# Altium footprint library Atmel Footprints.PcbLib: 116 footprints (part 8 of 8)
Each footprint in its own frame and in the unit in brackets; x right, y up, seen from the top. Pads: shape width x height; smd on the part's side, far side on the other; paste and mask are expansions set on the pad; w line width, h text height; cw(c..) or ccw(c..) is an arc to the next point about the centre after c.
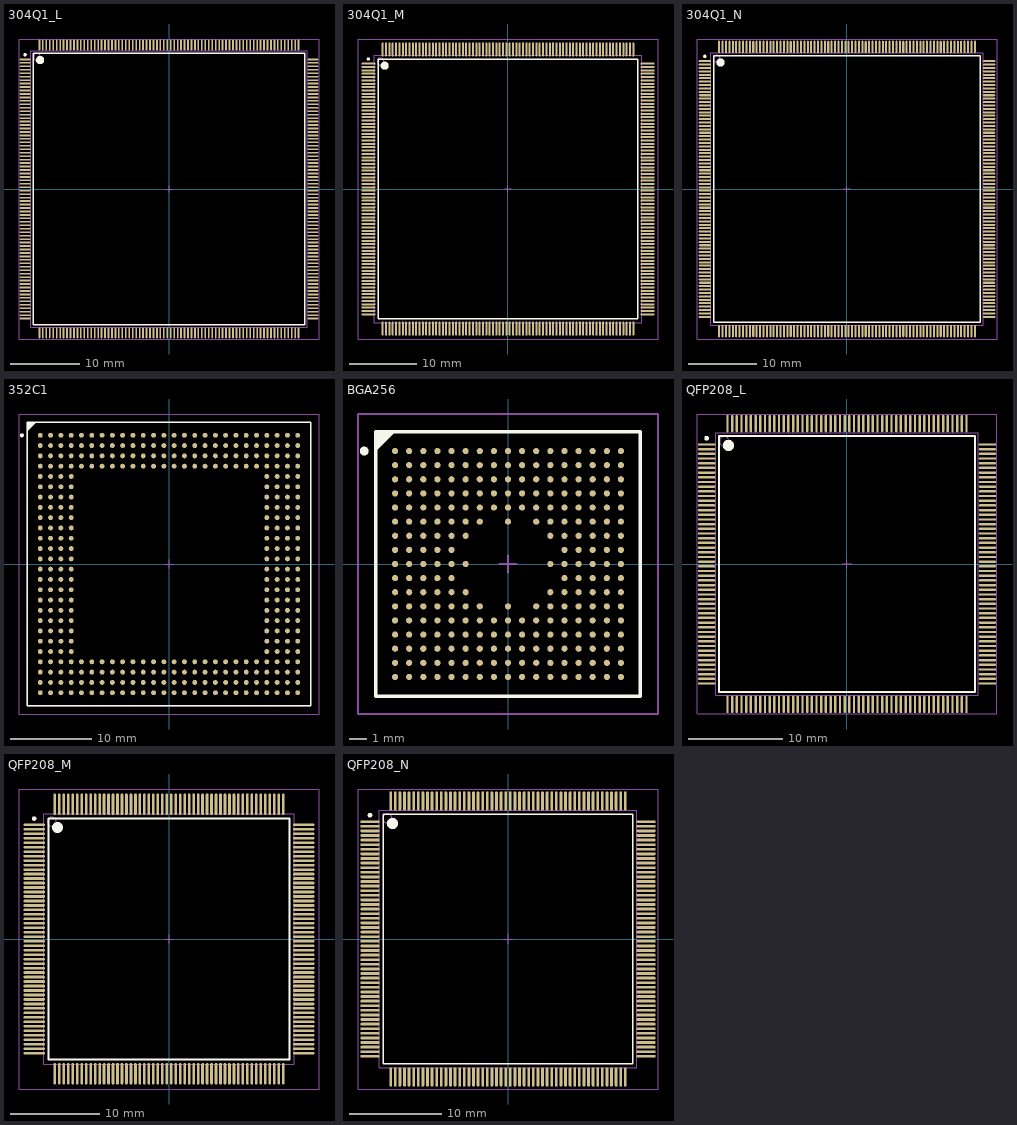
[diagram p7: the footprints below, top view; thin cyan lines are the x and y axes]

## 304Q1_L [mm] "304-Pin Shrink Quad Flat Pack 0.5 mm Pitch, IPC High Density"
height 4.05
pads (304):
  oval 1.55x0.25 smd: 1(-20.825,18.75) 2(-20.825,18.25) 3(-20.825,17.75) 4(-20.825,17.25) 5(-20.825,16.75) 6(-20.825,16.25) 7(-20.825,15.75) 8(-20.825,15.25) 9(-20.825,14.75) 10(-20.825,14.25) 11(-20.825,13.75) 12(-20.825,13.25) 13(-20.825,12.75) 14(-20.825,12.25) 15(-20.825,11.75) 16(-20.825,11.25) 17(-20.825,10.75) 18(-20.825,10.25) 19(-20.825,9.75) 20(-20.825,9.25) 21(-20.825,8.75) 22(-20.825,8.25) 23(-20.825,7.75) 24(-20.825,7.25) 25(-20.825,6.75) 26(-20.825,6.25) 27(-20.825,5.75) 28(-20.825,5.25) 29(-20.825,4.75) 30(-20.825,4.25) 31(-20.825,3.75) 32(-20.825,3.25) 33(-20.825,2.75) 34(-20.825,2.25) 35(-20.825,1.75) 36(-20.825,1.25) 37(-20.825,0.75) 38(-20.825,0.25) 39(-20.825,-0.25) 40(-20.825,-0.75) 41(-20.825,-1.25) 42(-20.825,-1.75) 43(-20.825,-2.25) 44(-20.825,-2.75) 45(-20.825,-3.25) 46(-20.825,-3.75) 47(-20.825,-4.25) 48(-20.825,-4.75) 49(-20.825,-5.25) 50(-20.825,-5.75) 51(-20.825,-6.25) 52(-20.825,-6.75) 53(-20.825,-7.25) 54(-20.825,-7.75) 55(-20.825,-8.25) 56(-20.825,-8.75) 57(-20.825,-9.25) 58(-20.825,-9.75) 59(-20.825,-10.25) 60(-20.825,-10.75) 61(-20.825,-11.25) 62(-20.825,-11.75) 63(-20.825,-12.25) 64(-20.825,-12.75) 65(-20.825,-13.25) 66(-20.825,-13.75) 67(-20.825,-14.25) 68(-20.825,-14.75) 69(-20.825,-15.25) 70(-20.825,-15.75) 71(-20.825,-16.25) 72(-20.825,-16.75) 73(-20.825,-17.25) 74(-20.825,-17.75) 75(-20.825,-18.25) 76(-20.825,-18.75) 153(20.825,-18.75) 154(20.825,-18.25) 155(20.825,-17.75) 156(20.825,-17.25) 157(20.825,-16.75) 158(20.825,-16.25) 159(20.825,-15.75) 160(20.825,-15.25) 161(20.825,-14.75) 162(20.825,-14.25) 163(20.825,-13.75) 164(20.825,-13.25) 165(20.825,-12.75) 166(20.825,-12.25) 167(20.825,-11.75) 168(20.825,-11.25) 169(20.825,-10.75) 170(20.825,-10.25) 171(20.825,-9.75) 172(20.825,-9.25) 173(20.825,-8.75) 174(20.825,-8.25) 175(20.825,-7.75) 176(20.825,-7.25) 177(20.825,-6.75) 178(20.825,-6.25) 179(20.825,-5.75) 180(20.825,-5.25) 181(20.825,-4.75) 182(20.825,-4.25) 183(20.825,-3.75) 184(20.825,-3.25) 185(20.825,-2.75) 186(20.825,-2.25) 187(20.825,-1.75) 188(20.825,-1.25) 189(20.825,-0.75) 190(20.825,-0.25) 191(20.825,0.25) 192(20.825,0.75) 193(20.825,1.25) 194(20.825,1.75) 195(20.825,2.25) 196(20.825,2.75) 197(20.825,3.25) 198(20.825,3.75) 199(20.825,4.25) 200(20.825,4.75) 201(20.825,5.25) 202(20.825,5.75) 203(20.825,6.25) 204(20.825,6.75) 205(20.825,7.25) 206(20.825,7.75) 207(20.825,8.25) 208(20.825,8.75) 209(20.825,9.25) 210(20.825,9.75) 211(20.825,10.25) 212(20.825,10.75) 213(20.825,11.25) 214(20.825,11.75) 215(20.825,12.25) 216(20.825,12.75) 217(20.825,13.25) 218(20.825,13.75) 219(20.825,14.25) 220(20.825,14.75) 221(20.825,15.25) 222(20.825,15.75) 223(20.825,16.25) 224(20.825,16.75) 225(20.825,17.25) 226(20.825,17.75) 227(20.825,18.25) 228(20.825,18.75)
  oval 0.25x1.55 smd: 77(-18.75,-20.825) 78(-18.25,-20.825) 79(-17.75,-20.825) 80(-17.25,-20.825) 81(-16.75,-20.825) 82(-16.25,-20.825) 83(-15.75,-20.825) 84(-15.25,-20.825) 85(-14.75,-20.825) 86(-14.25,-20.825) 87(-13.75,-20.825) 88(-13.25,-20.825) 89(-12.75,-20.825) 90(-12.25,-20.825) 91(-11.75,-20.825) 92(-11.25,-20.825) 93(-10.75,-20.825) 94(-10.25,-20.825) 95(-9.75,-20.825) 96(-9.25,-20.825) 97(-8.75,-20.825) 98(-8.25,-20.825) 99(-7.75,-20.825) 100(-7.25,-20.825) 101(-6.75,-20.825) 102(-6.25,-20.825) 103(-5.75,-20.825) 104(-5.25,-20.825) 105(-4.75,-20.825) 106(-4.25,-20.825) 107(-3.75,-20.825) 108(-3.25,-20.825) 109(-2.75,-20.825) 110(-2.25,-20.825) 111(-1.75,-20.825) 112(-1.25,-20.825) 113(-0.75,-20.825) 114(-0.25,-20.825) 115(0.25,-20.825) 116(0.75,-20.825) 117(1.25,-20.825) 118(1.75,-20.825) 119(2.25,-20.825) 120(2.75,-20.825) 121(3.25,-20.825) 122(3.75,-20.825) 123(4.25,-20.825) 124(4.75,-20.825) 125(5.25,-20.825) 126(5.75,-20.825) 127(6.25,-20.825) 128(6.75,-20.825) 129(7.25,-20.825) 130(7.75,-20.825) 131(8.25,-20.825) 132(8.75,-20.825) 133(9.25,-20.825) 134(9.75,-20.825) 135(10.25,-20.825) 136(10.75,-20.825) 137(11.25,-20.825) 138(11.75,-20.825) 139(12.25,-20.825) 140(12.75,-20.825) 141(13.25,-20.825) 142(13.75,-20.825) 143(14.25,-20.825) 144(14.75,-20.825) 145(15.25,-20.825) 146(15.75,-20.825) 147(16.25,-20.825) 148(16.75,-20.825) 149(17.25,-20.825) 150(17.75,-20.825) 151(18.25,-20.825) 152(18.75,-20.825) 229(18.75,20.825) 230(18.25,20.825) 231(17.75,20.825) 232(17.25,20.825) 233(16.75,20.825) 234(16.25,20.825) 235(15.75,20.825) 236(15.25,20.825) 237(14.75,20.825) 238(14.25,20.825) 239(13.75,20.825) 240(13.25,20.825) 241(12.75,20.825) 242(12.25,20.825) 243(11.75,20.825) 244(11.25,20.825) 245(10.75,20.825) 246(10.25,20.825) 247(9.75,20.825) 248(9.25,20.825) 249(8.75,20.825) 250(8.25,20.825) 251(7.75,20.825) 252(7.25,20.825) 253(6.75,20.825) 254(6.25,20.825) 255(5.75,20.825) 256(5.25,20.825) 257(4.75,20.825) 258(4.25,20.825) 259(3.75,20.825) 260(3.25,20.825) 261(2.75,20.825) 262(2.25,20.825) 263(1.75,20.825) 264(1.25,20.825) 265(0.75,20.825) 266(0.25,20.825) 267(-0.25,20.825) 268(-0.75,20.825) 269(-1.25,20.825) 270(-1.75,20.825) 271(-2.25,20.825) 272(-2.75,20.825) 273(-3.25,20.825) 274(-3.75,20.825) 275(-4.25,20.825) 276(-4.75,20.825) 277(-5.25,20.825) 278(-5.75,20.825) 279(-6.25,20.825) 280(-6.75,20.825) 281(-7.25,20.825) 282(-7.75,20.825) 283(-8.25,20.825) 284(-8.75,20.825) 285(-9.25,20.825) 286(-9.75,20.825) 287(-10.25,20.825) 288(-10.75,20.825) 289(-11.25,20.825) 290(-11.75,20.825) 291(-12.25,20.825) 292(-12.75,20.825) 293(-13.25,20.825) 294(-13.75,20.825) 295(-14.25,20.825) 296(-14.75,20.825) 297(-15.25,20.825) 298(-15.75,20.825) 299(-16.25,20.825) 300(-16.75,20.825) 301(-17.25,20.825) 302(-17.75,20.825) 303(-18.25,20.825) 304(-18.75,20.825)
Top Overlay:
  circle w0.6: c-18.65,18.65 r0.3
  circle w0.25: c-20.825,19.425 r0.125
  lines w0.2: -19.65,-19.65 19.65,-19.65 19.65,19.65 -19.65,19.65 -19.65,-19.65
Mechanical 13:
  circle w0.1: c-19.1,19.1 r0.5
  lines w0.1: -20,-20 20,-20 20,20 -20,20 -20,-20
Mechanical 15:
  lines w0.1: -0.5,0 0.5,0 ; 0,-0.5 0,0.5 ; -21.7,-21.7 21.7,-21.7 21.7,21.7 -21.7,21.7 -21.7,-21.7
3D body: height 4.05, standoff 0, extent -20,-20 20,20

## 304Q1_M [mm] "304-Pin Shrink Quad Flat Pack 0.5 mm Pitch, IPC Low Density"
height 4.05
pads (304):
  oval 2.1x0.3 smd: 1(-20.9,18.75) 2(-20.9,18.25) 3(-20.9,17.75) 4(-20.9,17.25) 5(-20.9,16.75) 6(-20.9,16.25) 7(-20.9,15.75) 8(-20.9,15.25) 9(-20.9,14.75) 10(-20.9,14.25) 11(-20.9,13.75) 12(-20.9,13.25) 13(-20.9,12.75) 14(-20.9,12.25) 15(-20.9,11.75) 16(-20.9,11.25) 17(-20.9,10.75) 18(-20.9,10.25) 19(-20.9,9.75) 20(-20.9,9.25) 21(-20.9,8.75) 22(-20.9,8.25) 23(-20.9,7.75) 24(-20.9,7.25) 25(-20.9,6.75) 26(-20.9,6.25) 27(-20.9,5.75) 28(-20.9,5.25) 29(-20.9,4.75) 30(-20.9,4.25) 31(-20.9,3.75) 32(-20.9,3.25) 33(-20.9,2.75) 34(-20.9,2.25) 35(-20.9,1.75) 36(-20.9,1.25) 37(-20.9,0.75) 38(-20.9,0.25) 39(-20.9,-0.25) 40(-20.9,-0.75) 41(-20.9,-1.25) 42(-20.9,-1.75) 43(-20.9,-2.25) 44(-20.9,-2.75) 45(-20.9,-3.25) 46(-20.9,-3.75) 47(-20.9,-4.25) 48(-20.9,-4.75) 49(-20.9,-5.25) 50(-20.9,-5.75) 51(-20.9,-6.25) 52(-20.9,-6.75) 53(-20.9,-7.25) 54(-20.9,-7.75) 55(-20.9,-8.25) 56(-20.9,-8.75) 57(-20.9,-9.25) 58(-20.9,-9.75) 59(-20.9,-10.25) 60(-20.9,-10.75) 61(-20.9,-11.25) 62(-20.9,-11.75) 63(-20.9,-12.25) 64(-20.9,-12.75) 65(-20.9,-13.25) 66(-20.9,-13.75) 67(-20.9,-14.25) 68(-20.9,-14.75) 69(-20.9,-15.25) 70(-20.9,-15.75) 71(-20.9,-16.25) 72(-20.9,-16.75) 73(-20.9,-17.25) 74(-20.9,-17.75) 75(-20.9,-18.25) 76(-20.9,-18.75) 153(20.9,-18.75) 154(20.9,-18.25) 155(20.9,-17.75) 156(20.9,-17.25) 157(20.9,-16.75) 158(20.9,-16.25) 159(20.9,-15.75) 160(20.9,-15.25) 161(20.9,-14.75) 162(20.9,-14.25) 163(20.9,-13.75) 164(20.9,-13.25) 165(20.9,-12.75) 166(20.9,-12.25) 167(20.9,-11.75) 168(20.9,-11.25) 169(20.9,-10.75) 170(20.9,-10.25) 171(20.9,-9.75) 172(20.9,-9.25) 173(20.9,-8.75) 174(20.9,-8.25) 175(20.9,-7.75) 176(20.9,-7.25) 177(20.9,-6.75) 178(20.9,-6.25) 179(20.9,-5.75) 180(20.9,-5.25) 181(20.9,-4.75) 182(20.9,-4.25) 183(20.9,-3.75) 184(20.9,-3.25) 185(20.9,-2.75) 186(20.9,-2.25) 187(20.9,-1.75) 188(20.9,-1.25) 189(20.9,-0.75) 190(20.9,-0.25) 191(20.9,0.25) 192(20.9,0.75) 193(20.9,1.25) 194(20.9,1.75) 195(20.9,2.25) 196(20.9,2.75) 197(20.9,3.25) 198(20.9,3.75) 199(20.9,4.25) 200(20.9,4.75) 201(20.9,5.25) 202(20.9,5.75) 203(20.9,6.25) 204(20.9,6.75) 205(20.9,7.25) 206(20.9,7.75) 207(20.9,8.25) 208(20.9,8.75) 209(20.9,9.25) 210(20.9,9.75) 211(20.9,10.25) 212(20.9,10.75) 213(20.9,11.25) 214(20.9,11.75) 215(20.9,12.25) 216(20.9,12.75) 217(20.9,13.25) 218(20.9,13.75) 219(20.9,14.25) 220(20.9,14.75) 221(20.9,15.25) 222(20.9,15.75) 223(20.9,16.25) 224(20.9,16.75) 225(20.9,17.25) 226(20.9,17.75) 227(20.9,18.25) 228(20.9,18.75)
  oval 0.3x2.1 smd: 77(-18.75,-20.9) 78(-18.25,-20.9) 79(-17.75,-20.9) 80(-17.25,-20.9) 81(-16.75,-20.9) 82(-16.25,-20.9) 83(-15.75,-20.9) 84(-15.25,-20.9) 85(-14.75,-20.9) 86(-14.25,-20.9) 87(-13.75,-20.9) 88(-13.25,-20.9) 89(-12.75,-20.9) 90(-12.25,-20.9) 91(-11.75,-20.9) 92(-11.25,-20.9) 93(-10.75,-20.9) 94(-10.25,-20.9) 95(-9.75,-20.9) 96(-9.25,-20.9) 97(-8.75,-20.9) 98(-8.25,-20.9) 99(-7.75,-20.9) 100(-7.25,-20.9) 101(-6.75,-20.9) 102(-6.25,-20.9) 103(-5.75,-20.9) 104(-5.25,-20.9) 105(-4.75,-20.9) 106(-4.25,-20.9) 107(-3.75,-20.9) 108(-3.25,-20.9) 109(-2.75,-20.9) 110(-2.25,-20.9) 111(-1.75,-20.9) 112(-1.25,-20.9) 113(-0.75,-20.9) 114(-0.25,-20.9) 115(0.25,-20.9) 116(0.75,-20.9) 117(1.25,-20.9) 118(1.75,-20.9) 119(2.25,-20.9) 120(2.75,-20.9) 121(3.25,-20.9) 122(3.75,-20.9) 123(4.25,-20.9) 124(4.75,-20.9) 125(5.25,-20.9) 126(5.75,-20.9) 127(6.25,-20.9) 128(6.75,-20.9) 129(7.25,-20.9) 130(7.75,-20.9) 131(8.25,-20.9) 132(8.75,-20.9) 133(9.25,-20.9) 134(9.75,-20.9) 135(10.25,-20.9) 136(10.75,-20.9) 137(11.25,-20.9) 138(11.75,-20.9) 139(12.25,-20.9) 140(12.75,-20.9) 141(13.25,-20.9) 142(13.75,-20.9) 143(14.25,-20.9) 144(14.75,-20.9) 145(15.25,-20.9) 146(15.75,-20.9) 147(16.25,-20.9) 148(16.75,-20.9) 149(17.25,-20.9) 150(17.75,-20.9) 151(18.25,-20.9) 152(18.75,-20.9) 229(18.75,20.9) 230(18.25,20.9) 231(17.75,20.9) 232(17.25,20.9) 233(16.75,20.9) 234(16.25,20.9) 235(15.75,20.9) 236(15.25,20.9) 237(14.75,20.9) 238(14.25,20.9) 239(13.75,20.9) 240(13.25,20.9) 241(12.75,20.9) 242(12.25,20.9) 243(11.75,20.9) 244(11.25,20.9) 245(10.75,20.9) 246(10.25,20.9) 247(9.75,20.9) 248(9.25,20.9) 249(8.75,20.9) 250(8.25,20.9) 251(7.75,20.9) 252(7.25,20.9) 253(6.75,20.9) 254(6.25,20.9) 255(5.75,20.9) 256(5.25,20.9) 257(4.75,20.9) 258(4.25,20.9) 259(3.75,20.9) 260(3.25,20.9) 261(2.75,20.9) 262(2.25,20.9) 263(1.75,20.9) 264(1.25,20.9) 265(0.75,20.9) 266(0.25,20.9) 267(-0.25,20.9) 268(-0.75,20.9) 269(-1.25,20.9) 270(-1.75,20.9) 271(-2.25,20.9) 272(-2.75,20.9) 273(-3.25,20.9) 274(-3.75,20.9) 275(-4.25,20.9) 276(-4.75,20.9) 277(-5.25,20.9) 278(-5.75,20.9) 279(-6.25,20.9) 280(-6.75,20.9) 281(-7.25,20.9) 282(-7.75,20.9) 283(-8.25,20.9) 284(-8.75,20.9) 285(-9.25,20.9) 286(-9.75,20.9) 287(-10.25,20.9) 288(-10.75,20.9) 289(-11.25,20.9) 290(-11.75,20.9) 291(-12.25,20.9) 292(-12.75,20.9) 293(-13.25,20.9) 294(-13.75,20.9) 295(-14.25,20.9) 296(-14.75,20.9) 297(-15.25,20.9) 298(-15.75,20.9) 299(-16.25,20.9) 300(-16.75,20.9) 301(-17.25,20.9) 302(-17.75,20.9) 303(-18.25,20.9) 304(-18.75,20.9)
Top Overlay:
  circle w0.6: c-18.45,18.45 r0.3
  circle w0.25: c-20.9,19.45 r0.125
  lines w0.2: -19.45,-19.45 19.45,-19.45 19.45,19.45 -19.45,19.45 -19.45,-19.45
Mechanical 13:
  circle w0.1: c-19.1,19.1 r0.5
  lines w0.1: -20,-20 20,-20 20,20 -20,20 -20,-20
Mechanical 15:
  lines w0.1: -0.5,0 0.5,0 ; 0,-0.5 0,0.5 ; -22.45,-22.45 22.45,-22.45 22.45,22.45 -22.45,22.45 -22.45,-22.45
3D body: height 4.05, standoff 0, extent -20,-20 20,20

## 304Q1_N [mm] "304-Pin Shrink Quad Flat Pack 0.5 mm Pitch, IPC Medium Density"
height 4.05
pads (304):
  oval 1.8x0.3 smd: 1(-20.85,18.75) 2(-20.85,18.25) 3(-20.85,17.75) 4(-20.85,17.25) 5(-20.85,16.75) 6(-20.85,16.25) 7(-20.85,15.75) 8(-20.85,15.25) 9(-20.85,14.75) 10(-20.85,14.25) 11(-20.85,13.75) 12(-20.85,13.25) 13(-20.85,12.75) 14(-20.85,12.25) 15(-20.85,11.75) 16(-20.85,11.25) 17(-20.85,10.75) 18(-20.85,10.25) 19(-20.85,9.75) 20(-20.85,9.25) 21(-20.85,8.75) 22(-20.85,8.25) 23(-20.85,7.75) 24(-20.85,7.25) 25(-20.85,6.75) 26(-20.85,6.25) 27(-20.85,5.75) 28(-20.85,5.25) 29(-20.85,4.75) 30(-20.85,4.25) 31(-20.85,3.75) 32(-20.85,3.25) 33(-20.85,2.75) 34(-20.85,2.25) 35(-20.85,1.75) 36(-20.85,1.25) 37(-20.85,0.75) 38(-20.85,0.25) 39(-20.85,-0.25) 40(-20.85,-0.75) 41(-20.85,-1.25) 42(-20.85,-1.75) 43(-20.85,-2.25) 44(-20.85,-2.75) 45(-20.85,-3.25) 46(-20.85,-3.75) 47(-20.85,-4.25) 48(-20.85,-4.75) 49(-20.85,-5.25) 50(-20.85,-5.75) 51(-20.85,-6.25) 52(-20.85,-6.75) 53(-20.85,-7.25) 54(-20.85,-7.75) 55(-20.85,-8.25) 56(-20.85,-8.75) 57(-20.85,-9.25) 58(-20.85,-9.75) 59(-20.85,-10.25) 60(-20.85,-10.75) 61(-20.85,-11.25) 62(-20.85,-11.75) 63(-20.85,-12.25) 64(-20.85,-12.75) 65(-20.85,-13.25) 66(-20.85,-13.75) 67(-20.85,-14.25) 68(-20.85,-14.75) 69(-20.85,-15.25) 70(-20.85,-15.75) 71(-20.85,-16.25) 72(-20.85,-16.75) 73(-20.85,-17.25) 74(-20.85,-17.75) 75(-20.85,-18.25) 76(-20.85,-18.75) 153(20.85,-18.75) 154(20.85,-18.25) 155(20.85,-17.75) 156(20.85,-17.25) 157(20.85,-16.75) 158(20.85,-16.25) 159(20.85,-15.75) 160(20.85,-15.25) 161(20.85,-14.75) 162(20.85,-14.25) 163(20.85,-13.75) 164(20.85,-13.25) 165(20.85,-12.75) 166(20.85,-12.25) 167(20.85,-11.75) 168(20.85,-11.25) 169(20.85,-10.75) 170(20.85,-10.25) 171(20.85,-9.75) 172(20.85,-9.25) 173(20.85,-8.75) 174(20.85,-8.25) 175(20.85,-7.75) 176(20.85,-7.25) 177(20.85,-6.75) 178(20.85,-6.25) 179(20.85,-5.75) 180(20.85,-5.25) 181(20.85,-4.75) 182(20.85,-4.25) 183(20.85,-3.75) 184(20.85,-3.25) 185(20.85,-2.75) 186(20.85,-2.25) 187(20.85,-1.75) 188(20.85,-1.25) 189(20.85,-0.75) 190(20.85,-0.25) 191(20.85,0.25) 192(20.85,0.75) 193(20.85,1.25) 194(20.85,1.75) 195(20.85,2.25) 196(20.85,2.75) 197(20.85,3.25) 198(20.85,3.75) 199(20.85,4.25) 200(20.85,4.75) 201(20.85,5.25) 202(20.85,5.75) 203(20.85,6.25) 204(20.85,6.75) 205(20.85,7.25) 206(20.85,7.75) 207(20.85,8.25) 208(20.85,8.75) 209(20.85,9.25) 210(20.85,9.75) 211(20.85,10.25) 212(20.85,10.75) 213(20.85,11.25) 214(20.85,11.75) 215(20.85,12.25) 216(20.85,12.75) 217(20.85,13.25) 218(20.85,13.75) 219(20.85,14.25) 220(20.85,14.75) 221(20.85,15.25) 222(20.85,15.75) 223(20.85,16.25) 224(20.85,16.75) 225(20.85,17.25) 226(20.85,17.75) 227(20.85,18.25) 228(20.85,18.75)
  oval 0.3x1.8 smd: 77(-18.75,-20.85) 78(-18.25,-20.85) 79(-17.75,-20.85) 80(-17.25,-20.85) 81(-16.75,-20.85) 82(-16.25,-20.85) 83(-15.75,-20.85) 84(-15.25,-20.85) 85(-14.75,-20.85) 86(-14.25,-20.85) 87(-13.75,-20.85) 88(-13.25,-20.85) 89(-12.75,-20.85) 90(-12.25,-20.85) 91(-11.75,-20.85) 92(-11.25,-20.85) 93(-10.75,-20.85) 94(-10.25,-20.85) 95(-9.75,-20.85) 96(-9.25,-20.85) 97(-8.75,-20.85) 98(-8.25,-20.85) 99(-7.75,-20.85) 100(-7.25,-20.85) 101(-6.75,-20.85) 102(-6.25,-20.85) 103(-5.75,-20.85) 104(-5.25,-20.85) 105(-4.75,-20.85) 106(-4.25,-20.85) 107(-3.75,-20.85) 108(-3.25,-20.85) 109(-2.75,-20.85) 110(-2.25,-20.85) 111(-1.75,-20.85) 112(-1.25,-20.85) 113(-0.75,-20.85) 114(-0.25,-20.85) 115(0.25,-20.85) 116(0.75,-20.85) 117(1.25,-20.85) 118(1.75,-20.85) 119(2.25,-20.85) 120(2.75,-20.85) 121(3.25,-20.85) 122(3.75,-20.85) 123(4.25,-20.85) 124(4.75,-20.85) 125(5.25,-20.85) 126(5.75,-20.85) 127(6.25,-20.85) 128(6.75,-20.85) 129(7.25,-20.85) 130(7.75,-20.85) 131(8.25,-20.85) 132(8.75,-20.85) 133(9.25,-20.85) 134(9.75,-20.85) 135(10.25,-20.85) 136(10.75,-20.85) 137(11.25,-20.85) 138(11.75,-20.85) 139(12.25,-20.85) 140(12.75,-20.85) 141(13.25,-20.85) 142(13.75,-20.85) 143(14.25,-20.85) 144(14.75,-20.85) 145(15.25,-20.85) 146(15.75,-20.85) 147(16.25,-20.85) 148(16.75,-20.85) 149(17.25,-20.85) 150(17.75,-20.85) 151(18.25,-20.85) 152(18.75,-20.85) 229(18.75,20.85) 230(18.25,20.85) 231(17.75,20.85) 232(17.25,20.85) 233(16.75,20.85) 234(16.25,20.85) 235(15.75,20.85) 236(15.25,20.85) 237(14.75,20.85) 238(14.25,20.85) 239(13.75,20.85) 240(13.25,20.85) 241(12.75,20.85) 242(12.25,20.85) 243(11.75,20.85) 244(11.25,20.85) 245(10.75,20.85) 246(10.25,20.85) 247(9.75,20.85) 248(9.25,20.85) 249(8.75,20.85) 250(8.25,20.85) 251(7.75,20.85) 252(7.25,20.85) 253(6.75,20.85) 254(6.25,20.85) 255(5.75,20.85) 256(5.25,20.85) 257(4.75,20.85) 258(4.25,20.85) 259(3.75,20.85) 260(3.25,20.85) 261(2.75,20.85) 262(2.25,20.85) 263(1.75,20.85) 264(1.25,20.85) 265(0.75,20.85) 266(0.25,20.85) 267(-0.25,20.85) 268(-0.75,20.85) 269(-1.25,20.85) 270(-1.75,20.85) 271(-2.25,20.85) 272(-2.75,20.85) 273(-3.25,20.85) 274(-3.75,20.85) 275(-4.25,20.85) 276(-4.75,20.85) 277(-5.25,20.85) 278(-5.75,20.85) 279(-6.25,20.85) 280(-6.75,20.85) 281(-7.25,20.85) 282(-7.75,20.85) 283(-8.25,20.85) 284(-8.75,20.85) 285(-9.25,20.85) 286(-9.75,20.85) 287(-10.25,20.85) 288(-10.75,20.85) 289(-11.25,20.85) 290(-11.75,20.85) 291(-12.25,20.85) 292(-12.75,20.85) 293(-13.25,20.85) 294(-13.75,20.85) 295(-14.25,20.85) 296(-14.75,20.85) 297(-15.25,20.85) 298(-15.75,20.85) 299(-16.25,20.85) 300(-16.75,20.85) 301(-17.25,20.85) 302(-17.75,20.85) 303(-18.25,20.85) 304(-18.75,20.85)
Top Overlay:
  circle w0.6: c-18.55,18.55 r0.3
  circle w0.25: c-20.85,19.45 r0.125
  lines w0.2: -19.55,-19.55 19.55,-19.55 19.55,19.55 -19.55,19.55 -19.55,-19.55
Mechanical 13:
  circle w0.1: c-19.1,19.1 r0.5
  lines w0.1: -20,-20 20,-20 20,20 -20,20 -20,-20
Mechanical 15:
  lines w0.1: -0.5,0 0.5,0 ; 0,-0.5 0,0.5 ; -22,-22 22,-22 22,22 -22,22 -22,-22
3D body: height 4.05, standoff 0, extent -20,-20 20,20

## 352C1 [mm] "352-ball, 35 x 35, Enhanced, Low-profile Square Ball Grid Array Package (SBGA)"
height 1.7
pads (352):
  round 0.6 smd: A1(-15.875,15.875) A2(-14.605,15.875) A3(-13.335,15.875) A4(-12.065,15.875) A5(-10.795,15.875) A6(-9.525,15.875) A7(-8.255,15.875) A8(-6.985,15.875) A9(-5.715,15.875) A10(-4.445,15.875) A11(-3.175,15.875) A12(-1.905,15.875) A13(-0.635,15.875) A14(0.635,15.875) A15(1.905,15.875) A16(3.175,15.875) A17(4.445,15.875) A18(5.715,15.875) A19(6.985,15.875) A20(8.255,15.875) A21(9.525,15.875) A22(10.795,15.875) A23(12.065,15.875) A24(13.335,15.875) A25(14.605,15.875) A26(15.875,15.875) AA1(-15.875,-9.525) AA2(-14.605,-9.525) AA3(-13.335,-9.525) AA4(-12.065,-9.525) AA23(12.065,-9.525) AA24(13.335,-9.525) AA25(14.605,-9.525) AA26(15.875,-9.525) AB1(-15.875,-10.795) AB2(-14.605,-10.795) AB3(-13.335,-10.795) AB4(-12.065,-10.795) AB23(12.065,-10.795) AB24(13.335,-10.795) AB25(14.605,-10.795) AB26(15.875,-10.795) AC1(-15.875,-12.065) AC2(-14.605,-12.065) AC3(-13.335,-12.065) AC4(-12.065,-12.065) AC5(-10.795,-12.065) AC6(-9.525,-12.065) AC7(-8.255,-12.065) AC8(-6.985,-12.065) AC9(-5.715,-12.065) AC10(-4.445,-12.065) AC11(-3.175,-12.065) AC12(-1.905,-12.065) AC13(-0.635,-12.065) AC14(0.635,-12.065) AC15(1.905,-12.065) AC16(3.175,-12.065) AC17(4.445,-12.065) AC18(5.715,-12.065) AC19(6.985,-12.065) AC20(8.255,-12.065) AC21(9.525,-12.065) AC22(10.795,-12.065) AC23(12.065,-12.065) AC24(13.335,-12.065) AC25(14.605,-12.065) AC26(15.875,-12.065) AD1(-15.875,-13.335) AD2(-14.605,-13.335) AD3(-13.335,-13.335) AD4(-12.065,-13.335) AD5(-10.795,-13.335) AD6(-9.525,-13.335) AD7(-8.255,-13.335) AD8(-6.985,-13.335) AD9(-5.715,-13.335) AD10(-4.445,-13.335) AD11(-3.175,-13.335) AD12(-1.905,-13.335) AD13(-0.635,-13.335) AD14(0.635,-13.335) AD15(1.905,-13.335) AD16(3.175,-13.335) AD17(4.445,-13.335) AD18(5.715,-13.335) AD19(6.985,-13.335) AD20(8.255,-13.335) AD21(9.525,-13.335) AD22(10.795,-13.335) AD23(12.065,-13.335) AD24(13.335,-13.335) AD25(14.605,-13.335) AD26(15.875,-13.335) AE1(-15.875,-14.605) AE2(-14.605,-14.605) AE3(-13.335,-14.605) AE4(-12.065,-14.605) AE5(-10.795,-14.605) AE6(-9.525,-14.605) AE7(-8.255,-14.605) AE8(-6.985,-14.605) AE9(-5.715,-14.605) AE10(-4.445,-14.605) AE11(-3.175,-14.605) AE12(-1.905,-14.605) AE13(-0.635,-14.605) AE14(0.635,-14.605) AE15(1.905,-14.605) AE16(3.175,-14.605) AE17(4.445,-14.605) AE18(5.715,-14.605) AE19(6.985,-14.605) AE20(8.255,-14.605) AE21(9.525,-14.605) AE22(10.795,-14.605) AE23(12.065,-14.605) AE24(13.335,-14.605) AE25(14.605,-14.605) AE26(15.875,-14.605) AF1(-15.875,-15.875) AF2(-14.605,-15.875) AF3(-13.335,-15.875) AF4(-12.065,-15.875) AF5(-10.795,-15.875) AF6(-9.525,-15.875) AF7(-8.255,-15.875) AF8(-6.985,-15.875) AF9(-5.715,-15.875) AF10(-4.445,-15.875) AF11(-3.175,-15.875) AF12(-1.905,-15.875) AF13(-0.635,-15.875) AF14(0.635,-15.875) AF15(1.905,-15.875) AF16(3.175,-15.875) AF17(4.445,-15.875) AF18(5.715,-15.875) AF19(6.985,-15.875) AF20(8.255,-15.875) AF21(9.525,-15.875) AF22(10.795,-15.875) AF23(12.065,-15.875) AF24(13.335,-15.875) AF25(14.605,-15.875) AF26(15.875,-15.875) B1(-15.875,14.605) B2(-14.605,14.605) B3(-13.335,14.605) B4(-12.065,14.605) B5(-10.795,14.605) B6(-9.525,14.605) B7(-8.255,14.605) B8(-6.985,14.605) B9(-5.715,14.605) B10(-4.445,14.605) B11(-3.175,14.605) B12(-1.905,14.605) B13(-0.635,14.605) B14(0.635,14.605) B15(1.905,14.605) B16(3.175,14.605) B17(4.445,14.605) B18(5.715,14.605) B19(6.985,14.605) B20(8.255,14.605) B21(9.525,14.605) B22(10.795,14.605) B23(12.065,14.605) B24(13.335,14.605) B25(14.605,14.605) B26(15.875,14.605) C1(-15.875,13.335) C2(-14.605,13.335) C3(-13.335,13.335) C4(-12.065,13.335) C5(-10.795,13.335) C6(-9.525,13.335) C7(-8.255,13.335) C8(-6.985,13.335) C9(-5.715,13.335) C10(-4.445,13.335) C11(-3.175,13.335) C12(-1.905,13.335) C13(-0.635,13.335) C14(0.635,13.335) C15(1.905,13.335) C16(3.175,13.335) C17(4.445,13.335) C18(5.715,13.335) C19(6.985,13.335) C20(8.255,13.335) C21(9.525,13.335) C22(10.795,13.335) C23(12.065,13.335) C24(13.335,13.335) C25(14.605,13.335) C26(15.875,13.335) D1(-15.875,12.065) D2(-14.605,12.065) D3(-13.335,12.065) D4(-12.065,12.065) D5(-10.795,12.065) D6(-9.525,12.065) D7(-8.255,12.065) D8(-6.985,12.065) D9(-5.715,12.065) D10(-4.445,12.065) D11(-3.175,12.065) D12(-1.905,12.065) D13(-0.635,12.065) D14(0.635,12.065) D15(1.905,12.065) D16(3.175,12.065) D17(4.445,12.065) D18(5.715,12.065) D19(6.985,12.065) D20(8.255,12.065) D21(9.525,12.065) D22(10.795,12.065) D23(12.065,12.065) D24(13.335,12.065) D25(14.605,12.065) D26(15.875,12.065) E1(-15.875,10.795) E2(-14.605,10.795) E3(-13.335,10.795) E4(-12.065,10.795) E23(12.065,10.795) E24(13.335,10.795) E25(14.605,10.795) E26(15.875,10.795) F1(-15.875,9.525) F2(-14.605,9.525) F3(-13.335,9.525) F4(-12.065,9.525) F23(12.065,9.525) F24(13.335,9.525) F25(14.605,9.525) F26(15.875,9.525) G1(-15.875,8.255) G2(-14.605,8.255) G3(-13.335,8.255) G4(-12.065,8.255) G23(12.065,8.255) G24(13.335,8.255) G25(14.605,8.255) G26(15.875,8.255) H1(-15.875,6.985) H2(-14.605,6.985) H3(-13.335,6.985) H4(-12.065,6.985) H23(12.065,6.985) H24(13.335,6.985) H25(14.605,6.985) H26(15.875,6.985) J1(-15.875,5.715) J2(-14.605,5.715) J3(-13.335,5.715) J4(-12.065,5.715) J23(12.065,5.715) J24(13.335,5.715) J25(14.605,5.715) J26(15.875,5.715) K1(-15.875,4.445) K2(-14.605,4.445) K3(-13.335,4.445) K4(-12.065,4.445) K23(12.065,4.445) K24(13.335,4.445) K25(14.605,4.445) K26(15.875,4.445) L1(-15.875,3.175) L2(-14.605,3.175) L3(-13.335,3.175) L4(-12.065,3.175) L23(12.065,3.175) L24(13.335,3.175) L25(14.605,3.175) L26(15.875,3.175) M1(-15.875,1.905) M2(-14.605,1.905) M3(-13.335,1.905) M4(-12.065,1.905) M23(12.065,1.905) M24(13.335,1.905) M25(14.605,1.905) M26(15.875,1.905) N1(-15.875,0.635) N2(-14.605,0.635) N3(-13.335,0.635) N4(-12.065,0.635) N23(12.065,0.635) N24(13.335,0.635) N25(14.605,0.635) N26(15.875,0.635) P1(-15.875,-0.635) P2(-14.605,-0.635) P3(-13.335,-0.635) P4(-12.065,-0.635) P23(12.065,-0.635) P24(13.335,-0.635) P25(14.605,-0.635) P26(15.875,-0.635) R1(-15.875,-1.905) R2(-14.605,-1.905) R3(-13.335,-1.905) R4(-12.065,-1.905) R23(12.065,-1.905) R24(13.335,-1.905) R25(14.605,-1.905) R26(15.875,-1.905) T1(-15.875,-3.175) T2(-14.605,-3.175) T3(-13.335,-3.175) T4(-12.065,-3.175) T23(12.065,-3.175) T24(13.335,-3.175) T25(14.605,-3.175) T26(15.875,-3.175) U1(-15.875,-4.445) U2(-14.605,-4.445) U3(-13.335,-4.445) U4(-12.065,-4.445) U23(12.065,-4.445) U24(13.335,-4.445) U25(14.605,-4.445) U26(15.875,-4.445) V1(-15.875,-5.715) V2(-14.605,-5.715) V3(-13.335,-5.715) V4(-12.065,-5.715) V23(12.065,-5.715) V24(13.335,-5.715) V25(14.605,-5.715) V26(15.875,-5.715) W1(-15.875,-6.985) W2(-14.605,-6.985) W3(-13.335,-6.985) W4(-12.065,-6.985) W23(12.065,-6.985) W24(13.335,-6.985) W25(14.605,-6.985) W26(15.875,-6.985) Y1(-15.875,-8.255) Y2(-14.605,-8.255) Y3(-13.335,-8.255) Y4(-12.065,-8.255) Y23(12.065,-8.255) Y24(13.335,-8.255) Y25(14.605,-8.255) Y26(15.875,-8.255)
Top Overlay:
  circle w0.25: c-18.15,15.875 r0.125
  region: -16.5,17.5 -17.5,16.5 -17.5,17.5
  lines w0.2: -17.5,16.5 -16.5,17.5 ; -17.5,-17.5 17.5,-17.5 17.5,17.5 -17.5,17.5 -17.5,-17.5
Mechanical 13:
  lines w0.1: -17.5,-17.5 17.5,-17.5 17.5,17.5 -17.5,17.5 -17.5,-17.5
Mechanical 15:
  lines w0.1: -0.5,0 0.5,0 ; 0,-0.5 0,0.5 ; -18.5,-18.5 18.5,-18.5 18.5,18.5 -18.5,18.5 -18.5,-18.5
3D body: height 1.7, standoff 0, extent -17.5,-17.5 17.5,17.5

## BGA256 [mm] "256-Ball Ball Grid Array 0.8 mm Pitch"
height 1.25
pads (256):
  round 0.35 smd: A1(-6.4,6.4) A2(-5.6,6.4) A3(-4.8,6.4) A4(-4,6.4) A5(-3.2,6.4) A6(-2.4,6.4) A7(-1.6,6.4) A8(-0.8,6.4) A9(0,6.4) A10(0.8,6.4) A11(1.6,6.4) A12(2.4,6.4) A13(3.2,6.4) A14(4,6.4) A15(4.8,6.4) A16(5.6,6.4) A17(6.4,6.4) B1(-6.4,5.6) B2(-5.6,5.6) B3(-4.8,5.6) B4(-4,5.6) B5(-3.2,5.6) B6(-2.4,5.6) B7(-1.6,5.6) B8(-0.8,5.6) B9(0,5.6) B10(0.8,5.6) B11(1.6,5.6) B12(2.4,5.6) B13(3.2,5.6) B14(4,5.6) B15(4.8,5.6) B16(5.6,5.6) B17(6.4,5.6) C1(-6.4,4.8) C2(-5.6,4.8) C3(-4.8,4.8) C4(-4,4.8) C5(-3.2,4.8) C6(-2.4,4.8) C7(-1.6,4.8) C8(-0.8,4.8) C9(0,4.8) C10(0.8,4.8) C11(1.6,4.8) C12(2.4,4.8) C13(3.2,4.8) C14(4,4.8) C15(4.8,4.8) C16(5.6,4.8) C17(6.4,4.8) D1(-6.4,4) D2(-5.6,4) D3(-4.8,4) D4(-4,4) D5(-3.2,4) D6(-2.4,4) D7(-1.6,4) D8(-0.8,4) D9(0,4) D10(0.8,4) D11(1.6,4) D12(2.4,4) D13(3.2,4) D14(4,4) D15(4.8,4) D16(5.6,4) D17(6.4,4) E1(-6.4,3.2) E2(-5.6,3.2) E3(-4.8,3.2) E4(-4,3.2) E5(-3.2,3.2) E6(-2.4,3.2) E7(-1.6,3.2) E8(-0.8,3.2) E9(0,3.2) E10(0.8,3.2) E11(1.6,3.2) E12(2.4,3.2) E13(3.2,3.2) E14(4,3.2) E15(4.8,3.2) E16(5.6,3.2) E17(6.4,3.2) F1(-6.4,2.4) F2(-5.6,2.4) F3(-4.8,2.4) F4(-4,2.4) F5(-3.2,2.4) F6(-2.4,2.4) F7(-1.6,2.4) F9(0,2.4) F11(1.6,2.4) F12(2.4,2.4) F13(3.2,2.4) F14(4,2.4) F15(4.8,2.4) F16(5.6,2.4) F17(6.4,2.4) G1(-6.4,1.6) G2(-5.6,1.6) G3(-4.8,1.6) G4(-4,1.6) G5(-3.2,1.6) G6(-2.4,1.6) G12(2.4,1.6) G13(3.2,1.6) G14(4,1.6) G15(4.8,1.6) G16(5.6,1.6) G17(6.4,1.6) H1(-6.4,0.8) H2(-5.6,0.8) H3(-4.8,0.8) H4(-4,0.8) H5(-3.2,0.8) H13(3.2,0.8) H14(4,0.8) H15(4.8,0.8) H16(5.6,0.8) H17(6.4,0.8) J1(-6.4,0) J2(-5.6,0) J3(-4.8,0) J4(-4,0) J5(-3.2,0) J6(-2.4,0) J12(2.4,0) J13(3.2,0) J14(4,0) J15(4.8,0) J16(5.6,0) J17(6.4,0) K1(-6.4,-0.8) K2(-5.6,-0.8) K3(-4.8,-0.8) K4(-4,-0.8) K5(-3.2,-0.8) K13(3.2,-0.8) K14(4,-0.8) K15(4.8,-0.8) K16(5.6,-0.8) K17(6.4,-0.8) L1(-6.4,-1.6) L2(-5.6,-1.6) L3(-4.8,-1.6) L4(-4,-1.6) L5(-3.2,-1.6) L6(-2.4,-1.6) L12(2.4,-1.6) L13(3.2,-1.6) L14(4,-1.6) L15(4.8,-1.6) L16(5.6,-1.6) L17(6.4,-1.6) M1(-6.4,-2.4) M2(-5.6,-2.4) M3(-4.8,-2.4) M4(-4,-2.4) M5(-3.2,-2.4) M6(-2.4,-2.4) M7(-1.6,-2.4) M9(0,-2.4) M11(1.6,-2.4) M12(2.4,-2.4) M13(3.2,-2.4) M14(4,-2.4) M15(4.8,-2.4) M16(5.6,-2.4) M17(6.4,-2.4) N1(-6.4,-3.2) N2(-5.6,-3.2) N3(-4.8,-3.2) N4(-4,-3.2) N5(-3.2,-3.2) N6(-2.4,-3.2) N7(-1.6,-3.2) N8(-0.8,-3.2) N9(0,-3.2) N10(0.8,-3.2) N11(1.6,-3.2) N12(2.4,-3.2) N13(3.2,-3.2) N14(4,-3.2) N15(4.8,-3.2) N16(5.6,-3.2) N17(6.4,-3.2) P1(-6.4,-4) P2(-5.6,-4) P3(-4.8,-4) P4(-4,-4) P5(-3.2,-4) P6(-2.4,-4) P7(-1.6,-4) P8(-0.8,-4) P9(0,-4) P10(0.8,-4) P11(1.6,-4) P12(2.4,-4) P13(3.2,-4) P14(4,-4) P15(4.8,-4) P16(5.6,-4) P17(6.4,-4) R1(-6.4,-4.8) R2(-5.6,-4.8) R3(-4.8,-4.8) R4(-4,-4.8) R5(-3.2,-4.8) R6(-2.4,-4.8) R7(-1.6,-4.8) R8(-0.8,-4.8) R9(0,-4.8) R10(0.8,-4.8) R11(1.6,-4.8) R12(2.4,-4.8) R13(3.2,-4.8) R14(4,-4.8) R15(4.8,-4.8) R16(5.6,-4.8) R17(6.4,-4.8) T1(-6.4,-5.6) T2(-5.6,-5.6) T3(-4.8,-5.6) T4(-4,-5.6) T5(-3.2,-5.6) T6(-2.4,-5.6) T7(-1.6,-5.6) T8(-0.8,-5.6) T9(0,-5.6) T10(0.8,-5.6) T11(1.6,-5.6) T12(2.4,-5.6) T13(3.2,-5.6) T14(4,-5.6) T15(4.8,-5.6) T16(5.6,-5.6) T17(6.4,-5.6) U1(-6.4,-6.4) U2(-5.6,-6.4) U3(-4.8,-6.4) U4(-4,-6.4) U5(-3.2,-6.4) U6(-2.4,-6.4) U7(-1.6,-6.4) U8(-0.8,-6.4) U9(0,-6.4) U10(0.8,-6.4) U11(1.6,-6.4) U12(2.4,-6.4) U13(3.2,-6.4) U14(4,-6.4) U15(4.8,-6.4) U16(5.6,-6.4) U17(6.4,-6.4)
Top Overlay:
  circle w0.25: c-8.15,6.4 r0.125
  region: -6.5,7.5 -7.5,6.5 -7.5,7.5
  lines w0.2: -7.5,6.5 -6.5,7.5 ; -7.5,-7.5 7.5,-7.5 7.5,7.5 -7.5,7.5 -7.5,-7.5
Mechanical 13:
  lines w0.1: -7.5,-7.5 7.5,-7.5 7.5,7.5 -7.5,7.5 -7.5,-7.5
Mechanical 15:
  lines w0.1: -0.5,0 0.5,0 ; 0,-0.5 0,0.5 ; -8.5,-8.5 8.5,-8.5 8.5,8.5 -8.5,8.5 -8.5,-8.5
3D body: height 1.25, standoff 0, extent -7.5,-7.5 7.5,7.5

## QFP208_L [mm] "208-Pin Plastic Shrink Quad Flat Pack 0.5 mm Pitch, IPC High Density"
height 4.3
pads (208):
  oval 1.85x0.25 smd: 1(-14.975,12.75) 2(-14.975,12.25) 3(-14.975,11.75) 4(-14.975,11.25) 5(-14.975,10.75) 6(-14.975,10.25) 7(-14.975,9.75) 8(-14.975,9.25) 9(-14.975,8.75) 10(-14.975,8.25) 11(-14.975,7.75) 12(-14.975,7.25) 13(-14.975,6.75) 14(-14.975,6.25) 15(-14.975,5.75) 16(-14.975,5.25) 17(-14.975,4.75) 18(-14.975,4.25) 19(-14.975,3.75) 20(-14.975,3.25) 21(-14.975,2.75) 22(-14.975,2.25) 23(-14.975,1.75) 24(-14.975,1.25) 25(-14.975,0.75) 26(-14.975,0.25) 27(-14.975,-0.25) 28(-14.975,-0.75) 29(-14.975,-1.25) 30(-14.975,-1.75) 31(-14.975,-2.25) 32(-14.975,-2.75) 33(-14.975,-3.25) 34(-14.975,-3.75) 35(-14.975,-4.25) 36(-14.975,-4.75) 37(-14.975,-5.25) 38(-14.975,-5.75) 39(-14.975,-6.25) 40(-14.975,-6.75) 41(-14.975,-7.25) 42(-14.975,-7.75) 43(-14.975,-8.25) 44(-14.975,-8.75) 45(-14.975,-9.25) 46(-14.975,-9.75) 47(-14.975,-10.25) 48(-14.975,-10.75) 49(-14.975,-11.25) 50(-14.975,-11.75) 51(-14.975,-12.25) 52(-14.975,-12.75) 105(14.975,-12.75) 106(14.975,-12.25) 107(14.975,-11.75) 108(14.975,-11.25) 109(14.975,-10.75) 110(14.975,-10.25) 111(14.975,-9.75) 112(14.975,-9.25) 113(14.975,-8.75) 114(14.975,-8.25) 115(14.975,-7.75) 116(14.975,-7.25) 117(14.975,-6.75) 118(14.975,-6.25) 119(14.975,-5.75) 120(14.975,-5.25) 121(14.975,-4.75) 122(14.975,-4.25) 123(14.975,-3.75) 124(14.975,-3.25) 125(14.975,-2.75) 126(14.975,-2.25) 127(14.975,-1.75) 128(14.975,-1.25) 129(14.975,-0.75) 130(14.975,-0.25) 131(14.975,0.25) 132(14.975,0.75) 133(14.975,1.25) 134(14.975,1.75) 135(14.975,2.25) 136(14.975,2.75) 137(14.975,3.25) 138(14.975,3.75) 139(14.975,4.25) 140(14.975,4.75) 141(14.975,5.25) 142(14.975,5.75) 143(14.975,6.25) 144(14.975,6.75) 145(14.975,7.25) 146(14.975,7.75) 147(14.975,8.25) 148(14.975,8.75) 149(14.975,9.25) 150(14.975,9.75) 151(14.975,10.25) 152(14.975,10.75) 153(14.975,11.25) 154(14.975,11.75) 155(14.975,12.25) 156(14.975,12.75)
  oval 0.25x1.85 smd: 53(-12.75,-14.975) 54(-12.25,-14.975) 55(-11.75,-14.975) 56(-11.25,-14.975) 57(-10.75,-14.975) 58(-10.25,-14.975) 59(-9.75,-14.975) 60(-9.25,-14.975) 61(-8.75,-14.975) 62(-8.25,-14.975) 63(-7.75,-14.975) 64(-7.25,-14.975) 65(-6.75,-14.975) 66(-6.25,-14.975) 67(-5.75,-14.975) 68(-5.25,-14.975) 69(-4.75,-14.975) 70(-4.25,-14.975) 71(-3.75,-14.975) 72(-3.25,-14.975) 73(-2.75,-14.975) 74(-2.25,-14.975) 75(-1.75,-14.975) 76(-1.25,-14.975) 77(-0.75,-14.975) 78(-0.25,-14.975) 79(0.25,-14.975) 80(0.75,-14.975) 81(1.25,-14.975) 82(1.75,-14.975) 83(2.25,-14.975) 84(2.75,-14.975) 85(3.25,-14.975) 86(3.75,-14.975) 87(4.25,-14.975) 88(4.75,-14.975) 89(5.25,-14.975) 90(5.75,-14.975) 91(6.25,-14.975) 92(6.75,-14.975) 93(7.25,-14.975) 94(7.75,-14.975) 95(8.25,-14.975) 96(8.75,-14.975) 97(9.25,-14.975) 98(9.75,-14.975) 99(10.25,-14.975) 100(10.75,-14.975) 101(11.25,-14.975) 102(11.75,-14.975) 103(12.25,-14.975) 104(12.75,-14.975) 157(12.75,14.975) 158(12.25,14.975) 159(11.75,14.975) 160(11.25,14.975) 161(10.75,14.975) 162(10.25,14.975) 163(9.75,14.975) 164(9.25,14.975) 165(8.75,14.975) 166(8.25,14.975) 167(7.75,14.975) 168(7.25,14.975) 169(6.75,14.975) 170(6.25,14.975) 171(5.75,14.975) 172(5.25,14.975) 173(4.75,14.975) 174(4.25,14.975) 175(3.75,14.975) 176(3.25,14.975) 177(2.75,14.975) 178(2.25,14.975) 179(1.75,14.975) 180(1.25,14.975) 181(0.75,14.975) 182(0.25,14.975) 183(-0.25,14.975) 184(-0.75,14.975) 185(-1.25,14.975) 186(-1.75,14.975) 187(-2.25,14.975) 188(-2.75,14.975) 189(-3.25,14.975) 190(-3.75,14.975) 191(-4.25,14.975) 192(-4.75,14.975) 193(-5.25,14.975) 194(-5.75,14.975) 195(-6.25,14.975) 196(-6.75,14.975) 197(-7.25,14.975) 198(-7.75,14.975) 199(-8.25,14.975) 200(-8.75,14.975) 201(-9.25,14.975) 202(-9.75,14.975) 203(-10.25,14.975) 204(-10.75,14.975) 205(-11.25,14.975) 206(-11.75,14.975) 207(-12.25,14.975) 208(-12.75,14.975)
Top Overlay:
  circle w0.6: c-12.65,12.65 r0.3
  circle w0.25: c-14.975,13.425 r0.125
  lines w0.2: -13.65,-13.65 13.65,-13.65 13.65,13.65 -13.65,13.65 -13.65,-13.65
Mechanical 13:
  circle w0.1: c-13.1,13.1 r0.5
  lines w0.1: -14,-14 14,-14 14,14 -14,14 -14,-14
Mechanical 15:
  lines w0.1: -0.5,0 0.5,0 ; 0,-0.5 0,0.5 ; -16,-16 16,-16 16,16 -16,16 -16,-16
3D body: height 4.3, standoff 0, extent -14,-14 14,14

## QFP208_M [mm] "208-Pin Plastic Shrink Quad Flat Pack 0.5 mm Pitch, IPC Low Density"
height 4.3
pads (208):
  oval 2.4x0.3 smd: 1(-15.05,12.75) 2(-15.05,12.25) 3(-15.05,11.75) 4(-15.05,11.25) 5(-15.05,10.75) 6(-15.05,10.25) 7(-15.05,9.75) 8(-15.05,9.25) 9(-15.05,8.75) 10(-15.05,8.25) 11(-15.05,7.75) 12(-15.05,7.25) 13(-15.05,6.75) 14(-15.05,6.25) 15(-15.05,5.75) 16(-15.05,5.25) 17(-15.05,4.75) 18(-15.05,4.25) 19(-15.05,3.75) 20(-15.05,3.25) 21(-15.05,2.75) 22(-15.05,2.25) 23(-15.05,1.75) 24(-15.05,1.25) 25(-15.05,0.75) 26(-15.05,0.25) 27(-15.05,-0.25) 28(-15.05,-0.75) 29(-15.05,-1.25) 30(-15.05,-1.75) 31(-15.05,-2.25) 32(-15.05,-2.75) 33(-15.05,-3.25) 34(-15.05,-3.75) 35(-15.05,-4.25) 36(-15.05,-4.75) 37(-15.05,-5.25) 38(-15.05,-5.75) 39(-15.05,-6.25) 40(-15.05,-6.75) 41(-15.05,-7.25) 42(-15.05,-7.75) 43(-15.05,-8.25) 44(-15.05,-8.75) 45(-15.05,-9.25) 46(-15.05,-9.75) 47(-15.05,-10.25) 48(-15.05,-10.75) 49(-15.05,-11.25) 50(-15.05,-11.75) 51(-15.05,-12.25) 52(-15.05,-12.75) 105(15.05,-12.75) 106(15.05,-12.25) 107(15.05,-11.75) 108(15.05,-11.25) 109(15.05,-10.75) 110(15.05,-10.25) 111(15.05,-9.75) 112(15.05,-9.25) 113(15.05,-8.75) 114(15.05,-8.25) 115(15.05,-7.75) 116(15.05,-7.25) 117(15.05,-6.75) 118(15.05,-6.25) 119(15.05,-5.75) 120(15.05,-5.25) 121(15.05,-4.75) 122(15.05,-4.25) 123(15.05,-3.75) 124(15.05,-3.25) 125(15.05,-2.75) 126(15.05,-2.25) 127(15.05,-1.75) 128(15.05,-1.25) 129(15.05,-0.75) 130(15.05,-0.25) 131(15.05,0.25) 132(15.05,0.75) 133(15.05,1.25) 134(15.05,1.75) 135(15.05,2.25) 136(15.05,2.75) 137(15.05,3.25) 138(15.05,3.75) 139(15.05,4.25) 140(15.05,4.75) 141(15.05,5.25) 142(15.05,5.75) 143(15.05,6.25) 144(15.05,6.75) 145(15.05,7.25) 146(15.05,7.75) 147(15.05,8.25) 148(15.05,8.75) 149(15.05,9.25) 150(15.05,9.75) 151(15.05,10.25) 152(15.05,10.75) 153(15.05,11.25) 154(15.05,11.75) 155(15.05,12.25) 156(15.05,12.75)
  oval 0.3x2.4 smd: 53(-12.75,-15.05) 54(-12.25,-15.05) 55(-11.75,-15.05) 56(-11.25,-15.05) 57(-10.75,-15.05) 58(-10.25,-15.05) 59(-9.75,-15.05) 60(-9.25,-15.05) 61(-8.75,-15.05) 62(-8.25,-15.05) 63(-7.75,-15.05) 64(-7.25,-15.05) 65(-6.75,-15.05) 66(-6.25,-15.05) 67(-5.75,-15.05) 68(-5.25,-15.05) 69(-4.75,-15.05) 70(-4.25,-15.05) 71(-3.75,-15.05) 72(-3.25,-15.05) 73(-2.75,-15.05) 74(-2.25,-15.05) 75(-1.75,-15.05) 76(-1.25,-15.05) 77(-0.75,-15.05) 78(-0.25,-15.05) 79(0.25,-15.05) 80(0.75,-15.05) 81(1.25,-15.05) 82(1.75,-15.05) 83(2.25,-15.05) 84(2.75,-15.05) 85(3.25,-15.05) 86(3.75,-15.05) 87(4.25,-15.05) 88(4.75,-15.05) 89(5.25,-15.05) 90(5.75,-15.05) 91(6.25,-15.05) 92(6.75,-15.05) 93(7.25,-15.05) 94(7.75,-15.05) 95(8.25,-15.05) 96(8.75,-15.05) 97(9.25,-15.05) 98(9.75,-15.05) 99(10.25,-15.05) 100(10.75,-15.05) 101(11.25,-15.05) 102(11.75,-15.05) 103(12.25,-15.05) 104(12.75,-15.05) 157(12.75,15.05) 158(12.25,15.05) 159(11.75,15.05) 160(11.25,15.05) 161(10.75,15.05) 162(10.25,15.05) 163(9.75,15.05) 164(9.25,15.05) 165(8.75,15.05) 166(8.25,15.05) 167(7.75,15.05) 168(7.25,15.05) 169(6.75,15.05) 170(6.25,15.05) 171(5.75,15.05) 172(5.25,15.05) 173(4.75,15.05) 174(4.25,15.05) 175(3.75,15.05) 176(3.25,15.05) 177(2.75,15.05) 178(2.25,15.05) 179(1.75,15.05) 180(1.25,15.05) 181(0.75,15.05) 182(0.25,15.05) 183(-0.25,15.05) 184(-0.75,15.05) 185(-1.25,15.05) 186(-1.75,15.05) 187(-2.25,15.05) 188(-2.75,15.05) 189(-3.25,15.05) 190(-3.75,15.05) 191(-4.25,15.05) 192(-4.75,15.05) 193(-5.25,15.05) 194(-5.75,15.05) 195(-6.25,15.05) 196(-6.75,15.05) 197(-7.25,15.05) 198(-7.75,15.05) 199(-8.25,15.05) 200(-8.75,15.05) 201(-9.25,15.05) 202(-9.75,15.05) 203(-10.25,15.05) 204(-10.75,15.05) 205(-11.25,15.05) 206(-11.75,15.05) 207(-12.25,15.05) 208(-12.75,15.05)
Top Overlay:
  circle w0.6: c-12.45,12.45 r0.3
  circle w0.25: c-15.05,13.45 r0.125
  lines w0.2: -13.45,-13.45 13.45,-13.45 13.45,13.45 -13.45,13.45 -13.45,-13.45
Mechanical 13:
  circle w0.1: c-13.1,13.1 r0.5
  lines w0.1: -14,-14 14,-14 14,14 -14,14 -14,-14
Mechanical 15:
  lines w0.1: -0.5,0 0.5,0 ; 0,-0.5 0,0.5 ; -16.75,-16.75 16.75,-16.75 16.75,16.75 -16.75,16.75 -16.75,-16.75
3D body: height 4.3, standoff 0, extent -14,-14 14,14

## QFP208_N [mm] "208-Pin Plastic Shrink Quad Flat Pack 0.5 mm Pitch, IPC Medium Density"
height 4.3
pads (208):
  oval 2.1x0.3 smd: 1(-15,12.75) 2(-15,12.25) 3(-15,11.75) 4(-15,11.25) 5(-15,10.75) 6(-15,10.25) 7(-15,9.75) 8(-15,9.25) 9(-15,8.75) 10(-15,8.25) 11(-15,7.75) 12(-15,7.25) 13(-15,6.75) 14(-15,6.25) 15(-15,5.75) 16(-15,5.25) 17(-15,4.75) 18(-15,4.25) 19(-15,3.75) 20(-15,3.25) 21(-15,2.75) 22(-15,2.25) 23(-15,1.75) 24(-15,1.25) 25(-15,0.75) 26(-15,0.25) 27(-15,-0.25) 28(-15,-0.75) 29(-15,-1.25) 30(-15,-1.75) 31(-15,-2.25) 32(-15,-2.75) 33(-15,-3.25) 34(-15,-3.75) 35(-15,-4.25) 36(-15,-4.75) 37(-15,-5.25) 38(-15,-5.75) 39(-15,-6.25) 40(-15,-6.75) 41(-15,-7.25) 42(-15,-7.75) 43(-15,-8.25) 44(-15,-8.75) 45(-15,-9.25) 46(-15,-9.75) 47(-15,-10.25) 48(-15,-10.75) 49(-15,-11.25) 50(-15,-11.75) 51(-15,-12.25) 52(-15,-12.75) 105(15,-12.75) 106(15,-12.25) 107(15,-11.75) 108(15,-11.25) 109(15,-10.75) 110(15,-10.25) 111(15,-9.75) 112(15,-9.25) 113(15,-8.75) 114(15,-8.25) 115(15,-7.75) 116(15,-7.25) 117(15,-6.75) 118(15,-6.25) 119(15,-5.75) 120(15,-5.25) 121(15,-4.75) 122(15,-4.25) 123(15,-3.75) 124(15,-3.25) 125(15,-2.75) 126(15,-2.25) 127(15,-1.75) 128(15,-1.25) 129(15,-0.75) 130(15,-0.25) 131(15,0.25) 132(15,0.75) 133(15,1.25) 134(15,1.75) 135(15,2.25) 136(15,2.75) 137(15,3.25) 138(15,3.75) 139(15,4.25) 140(15,4.75) 141(15,5.25) 142(15,5.75) 143(15,6.25) 144(15,6.75) 145(15,7.25) 146(15,7.75) 147(15,8.25) 148(15,8.75) 149(15,9.25) 150(15,9.75) 151(15,10.25) 152(15,10.75) 153(15,11.25) 154(15,11.75) 155(15,12.25) 156(15,12.75)
  oval 0.3x2.1 smd: 53(-12.75,-15) 54(-12.25,-15) 55(-11.75,-15) 56(-11.25,-15) 57(-10.75,-15) 58(-10.25,-15) 59(-9.75,-15) 60(-9.25,-15) 61(-8.75,-15) 62(-8.25,-15) 63(-7.75,-15) 64(-7.25,-15) 65(-6.75,-15) 66(-6.25,-15) 67(-5.75,-15) 68(-5.25,-15) 69(-4.75,-15) 70(-4.25,-15) 71(-3.75,-15) 72(-3.25,-15) 73(-2.75,-15) 74(-2.25,-15) 75(-1.75,-15) 76(-1.25,-15) 77(-0.75,-15) 78(-0.25,-15) 79(0.25,-15) 80(0.75,-15) 81(1.25,-15) 82(1.75,-15) 83(2.25,-15) 84(2.75,-15) 85(3.25,-15) 86(3.75,-15) 87(4.25,-15) 88(4.75,-15) 89(5.25,-15) 90(5.75,-15) 91(6.25,-15) 92(6.75,-15) 93(7.25,-15) 94(7.75,-15) 95(8.25,-15) 96(8.75,-15) 97(9.25,-15) 98(9.75,-15) 99(10.25,-15) 100(10.75,-15) 101(11.25,-15) 102(11.75,-15) 103(12.25,-15) 104(12.75,-15) 157(12.75,15) 158(12.25,15) 159(11.75,15) 160(11.25,15) 161(10.75,15) 162(10.25,15) 163(9.75,15) 164(9.25,15) 165(8.75,15) 166(8.25,15) 167(7.75,15) 168(7.25,15) 169(6.75,15) 170(6.25,15) 171(5.75,15) 172(5.25,15) 173(4.75,15) 174(4.25,15) 175(3.75,15) 176(3.25,15) 177(2.75,15) 178(2.25,15) 179(1.75,15) 180(1.25,15) 181(0.75,15) 182(0.25,15) 183(-0.25,15) 184(-0.75,15) 185(-1.25,15) 186(-1.75,15) 187(-2.25,15) 188(-2.75,15) 189(-3.25,15) 190(-3.75,15) 191(-4.25,15) 192(-4.75,15) 193(-5.25,15) 194(-5.75,15) 195(-6.25,15) 196(-6.75,15) 197(-7.25,15) 198(-7.75,15) 199(-8.25,15) 200(-8.75,15) 201(-9.25,15) 202(-9.75,15) 203(-10.25,15) 204(-10.75,15) 205(-11.25,15) 206(-11.75,15) 207(-12.25,15) 208(-12.75,15)
Top Overlay:
  circle w0.6: c-12.55,12.55 r0.3
  circle w0.25: c-15,13.45 r0.125
  lines w0.2: -13.55,-13.55 13.55,-13.55 13.55,13.55 -13.55,13.55 -13.55,-13.55
Mechanical 13:
  circle w0.1: c-13.1,13.1 r0.5
  lines w0.1: -14,-14 14,-14 14,14 -14,14 -14,-14
Mechanical 15:
  lines w0.1: -0.5,0 0.5,0 ; 0,-0.5 0,0.5 ; -16.3,-16.3 16.3,-16.3 16.3,16.3 -16.3,16.3 -16.3,-16.3
3D body: height 4.3, standoff 0, extent -14,-14 14,14